# Altium schematic symbol library HY2213.SchLib: 3 symbols
Pins are listed as number, name and electrical type; pins without a type are passive.

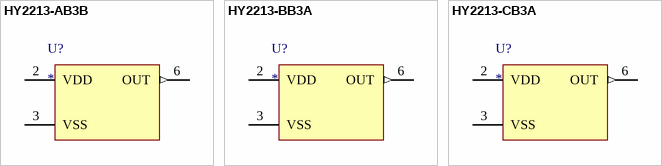
[diagram p0: symbols HY2213-AB3B to HY2213-CB3A]

## HY2213-AB3B
designator U?
1 Cell Li-ion/Polymer Battery Charge Balance IC
footprint HY2213-SOT23-6 (SOT-23/SC-74A; 5 Leads; Body 3.1 x 3 mm, inc. leads (LxW max))
pins: 2 VDD (power), 3 VSS (power), 6 OUT (out)

## HY2213-BB3A
designator U?
1 Cell Li-ion/Polymer Battery Charge Balance IC
footprint HY2213-SOT23-6 (SOT-23/SC-74A; 5 Leads; Body 3.1 x 3 mm, inc. leads (LxW max))
pins: 2 VDD (power), 3 VSS (power), 6 OUT (out)

## HY2213-CB3A
designator U?
1 Cell Li-ion/Polymer Battery Charge Balance IC
footprint HY2213-SOT23-6 (SOT-23/SC-74A; 5 Leads; Body 3.1 x 3 mm, inc. leads (LxW max))
pins: 2 VDD (power), 3 VSS (power), 6 OUT (out)